# Altium footprint library FemaleReceptacleSMD_100mil.PcbLib: 4 footprints
Each footprint in its own frame and in the unit in brackets; x right, y up, seen from the top. Pads: shape width x height; smd on the part's side, far side on the other; paste and mask are expansions set on the pad; w line width, h text height; cw(c..) or ccw(c..) is an arc to the next point about the centre after c.
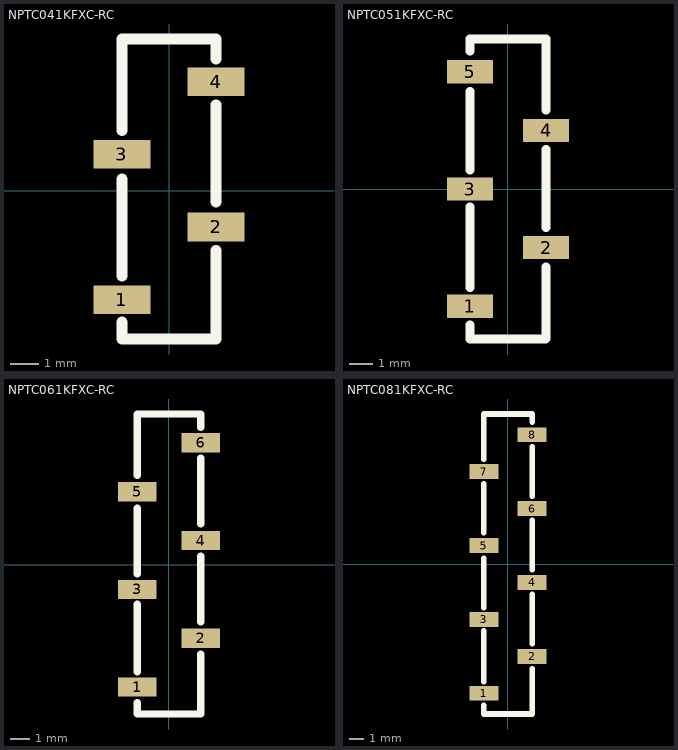
[diagram p0: the footprints below, top view; thin cyan lines are the x and y axes]

## NPTC041KFXC-RC [mm]
pads (4):
  rect 2x1 smd: 1(-1.65,-3.81) 2(1.65,-1.27) 3(-1.65,1.27) 4(1.65,3.81)
Top Overlay:
  lines w0.381: -1.65,-4.59 -1.65,-5.19 1.65,-5.19 1.65,-2.09 ; -1.65,-2.99 -1.65,0.41 ; -1.65,2.11 -1.65,5.31 1.65,5.31 1.65,4.61 ; 1.65,-0.39 1.65,3.01
3D body "NPTC041KFXC-RC.STEP": height 7.51, standoff 0.01, extent -2.15,-5.08 2.15,5.08

## NPTC051KFXC-RC [mm]
pads (5):
  rect 2x1 smd: 1(-1.65,-5.08) 2(1.65,-2.54) 3(-1.65,0) 4(1.65,2.54) 5(-1.65,5.08)
Top Overlay:
  lines w0.381: -1.652,5.969 -1.652,6.5 1.65,6.5 1.65,3.42 ; -1.65,-5.88 -1.65,-6.5 1.63,-6.5 1.65,-6.48 1.65,-3.38 ; -1.65,-4.28 -1.65,-0.78 ; -1.65,0.82 -1.65,4.22 ; 1.65,-1.68 1.65,1.72
3D body "NPTC051KFXC-RC.STEP": height 7.51, standoff 0.01, extent -2.2,-6.35 2.1,6.35

## NPTC061KFXC-RC [mm]
pads (6):
  rect 2x1 smd: 1(-1.65,-6.35) 2(1.65,-3.81) 3(-1.65,-1.27) 4(1.65,1.27) 5(-1.65,3.81) 6(1.65,6.35)
Top Overlay:
  lines w0.381: -1.65,-7.15 -1.65,-7.75 1.65,-7.75 1.65,-4.65 ; -1.65,-5.55 -1.65,-2.05 ; -1.65,-0.45 -1.65,2.95 ; -1.65,4.65 -1.65,7.85 1.65,7.85 1.65,7.15 ; 1.65,-2.95 1.65,0.45 ; 1.65,2.15 1.65,5.55
3D body "NPTC061KFXC-RC.STEP": height 7.51, standoff 0.01, extent -2.15,-7.62 2.15,7.62

## NPTC081KFXC-RC [mm]
pads (8):
  rect 2x1 smd: 1(-1.65,-8.89) 2(1.65,-6.35) 3(-1.65,-3.81) 4(1.65,-1.27) 5(-1.65,1.27) 6(1.65,3.81) 7(-1.65,6.35) 8(1.65,8.89)
Top Overlay:
  lines w0.381: -1.65,-9.69 -1.65,-10.3 1.65,-10.3 1.65,-7.19 ; -1.65,-8.09 -1.65,-4.59 ; -1.65,-2.99 -1.65,0.41 ; -1.65,2.15 -1.65,5.5 ; -1.65,7.2 -1.65,10.3 1.65,10.3 1.65,9.75 ; 1.65,-5.49 1.65,-2.09 ; 1.65,-0.39 1.65,3.01 ; 1.65,4.65 1.65,8.05
3D body "NPTC081KFXC-RC.STEP": height 7.51, standoff 0.01, extent -2.15,-10.17 2.15,10.15